# Altium schematic symbol library MyParts.SchLib: 8 symbols
Pins are listed as number, name and electrical type; pins without a type are passive.

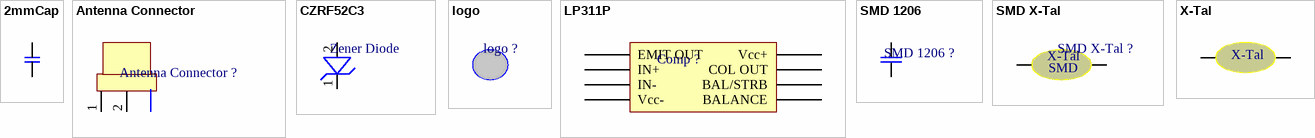
[diagram p0: symbols 2mmCap to X-Tal]

## 2mmCap
designator 2mmCap ?  (value not drawn)
pins: 1, 2

## Antenna Connector
designator Antenna Connector ?  (value not drawn)
pins: 1, 2

## CZRF52C3
designator Zener Diode  (value not drawn)
pins: 1, 2

## logo
designator logo ?  (value not drawn)

## LP311P
designator Comp ?, comment Comparator  (value not drawn)
pins: 1 EMIT OUT, 2 IN+, 3 IN-, 4 Vcc-, 5 BALANCE, 6 BAL/STRB, 7 COL OUT, 8 Vcc+

## SMD 1206
designator SMD 1206 ?  (value not drawn)
SMD 1206 Package Type
pins: 1, 2

## SMD X-Tal
designator SMD X-Tal ?  (value not drawn)
pins: 1, 2
text: X-Tal; SMD

## X-Tal
designator X-Tal ?  (value not drawn)
pins: 1, 2